# Altium footprint library LQFP.PcbLib: 7 footprints
Each footprint in its own frame and in the unit in brackets; x right, y up, seen from the top. Pads: shape width x height; smd on the part's side, far side on the other; paste and mask are expansions set on the pad; w line width, h text height; cw(c..) or ccw(c..) is an arc to the next point about the centre after c.
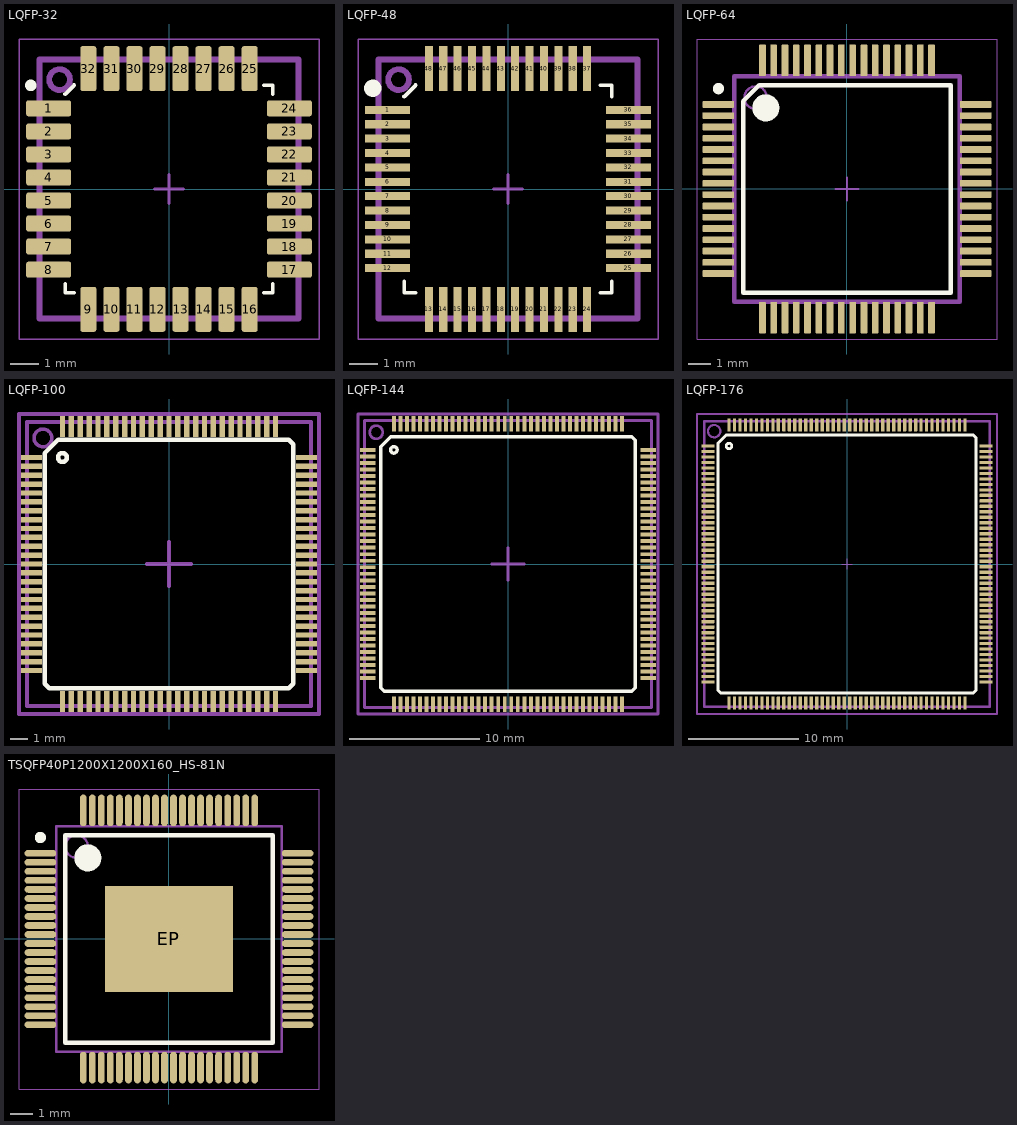
[diagram p0: the footprints below, top view; thin cyan lines are the x and y axes]

## LQFP-32 [mm]
height 1.2
pads (32):
  rrect25% 1.56x0.55 smd: 1(-4.18,2.8) 2(-4.18,2) 3(-4.18,1.2) 4(-4.18,0.4) 5(-4.18,-0.4) 6(-4.18,-1.2) 7(-4.18,-2) 8(-4.18,-2.8) 17(4.18,-2.8) 18(4.18,-2) 19(4.18,-1.2) 20(4.18,-0.4) 21(4.18,0.4) 22(4.18,1.2) 23(4.18,2) 24(4.18,2.8)
  rrect25% 0.55x1.56 smd: 9(-2.8,-4.18) 10(-2,-4.18) 11(-1.2,-4.18) 12(-0.4,-4.18) 13(0.4,-4.18) 14(1.2,-4.18) 15(2,-4.18) 16(2.8,-4.18) 25(2.8,4.18) 26(2,4.18) 27(1.2,4.18) 28(0.4,4.18) 29(-0.4,4.18) 30(-1.2,4.18) 31(-2,4.18) 32(-2.8,4.18)
Top Overlay:
  circle w0.2: c-4.8,3.6 r0.1
  lines w0.127: -3.6,-3.3 -3.6,-3.6 -3.3,-3.6 ; 3.3,-3.6 3.6,-3.6 3.6,-3.3 ; 3.3,3.6 3.6,3.6 3.6,3.3
  lines w0.15: -3.6,3.3 -3.3,3.6
Top Assembly (Mech3):
  circle w0.2: c-3.8,3.8 r0.361
  lines w0.2: -4.5,-4.5 4.5,-4.5 4.5,4.5 -4.5,4.5 -4.5,-4.5
Top Courtyard:
  lines w0.05: -5.21,-5.21 -5.21,5.21 5.21,5.21 5.21,-5.21 -5.21,-5.21
  lines w0.1: -0.5,0 0.5,0 ; 0,-0.5 0,0.5
3D body "LQFP32_FPT-32P-M21.stp": height 1.5, standoff 0, extent -4.5,-4.5 4.5,4.5

## LQFP-48 [mm]
height 1.2
pads (48):
  rect 1.56x0.28 smd: 1(-4.18,2.75) 2(-4.18,2.25) 3(-4.18,1.75) 4(-4.18,1.25) 5(-4.18,0.75) 6(-4.18,0.25) 7(-4.18,-0.25) 8(-4.18,-0.75) 9(-4.18,-1.25) 10(-4.18,-1.75) 11(-4.18,-2.25) 12(-4.18,-2.75) 25(4.18,-2.75) 26(4.18,-2.25) 27(4.18,-1.75) 28(4.18,-1.25) 29(4.18,-0.75) 30(4.18,-0.25) 31(4.18,0.25) 32(4.18,0.75) 33(4.18,1.25) 34(4.18,1.75) 35(4.18,2.25) 36(4.18,2.75)
  rect 0.28x1.56 smd: 13(-2.75,-4.18) 14(-2.25,-4.18) 15(-1.75,-4.18) 16(-1.25,-4.18) 17(-0.75,-4.18) 18(-0.25,-4.18) 19(0.25,-4.18) 20(0.75,-4.18) 21(1.25,-4.18) 22(1.75,-4.18) 23(2.25,-4.18) 24(2.75,-4.18) 37(2.75,4.18) 38(2.25,4.18) 39(1.75,4.18) 40(1.25,4.18) 41(0.75,4.18) 42(0.25,4.18) 43(-0.25,4.18) 44(-0.75,4.18) 45(-1.25,4.18) 46(-1.75,4.18) 47(-2.25,4.18) 48(-2.75,4.18)
Top Overlay:
  circle w0.3: c-4.7,3.5 r0.15
  lines w0.127: -3.6,-3.21 -3.6,-3.6 -3.21,-3.6 ; 3.21,-3.6 3.6,-3.6 3.6,-3.21 ; 3.21,3.6 3.6,3.6 3.6,3.21
  lines w0.15: -3.6,3.21 -3.21,3.6
Top Assembly (Mech3):
  circle w0.2: c-3.8,3.8 r0.361
  lines w0.2: -4.5,-4.5 -4.5,4.5 4.5,4.5 4.5,-4.5 -4.5,-4.5
Top Courtyard:
  lines w0.05: -5.21,-5.21 5.21,-5.21 5.21,5.21 -5.21,5.21 -5.21,-5.21
  lines w0.1: -0.5,0 0.5,0 ; 0,-0.5 0,0.5
3D body "LQFP48_FPT-48P-M05.stp": height 1.5, standoff 0, extent -4.5,-4.5 4.5,4.5

## LQFP-64 [mm] "TSQFP, 64-Leads, Body 10,00x10,00mm, Pitch 0,50mm, IPC Medium Density"
height 1.6
pads (64):
  rrect25% 1.4x0.3 smd: 1(-5.7,3.75) 2(-5.7,3.25) 3(-5.7,2.75) 4(-5.7,2.25) 5(-5.7,1.75) 6(-5.7,1.25) 7(-5.7,0.75) 8(-5.7,0.25) 9(-5.7,-0.25) 10(-5.7,-0.75) 11(-5.7,-1.25) 12(-5.7,-1.75) 13(-5.7,-2.25) 14(-5.7,-2.75) 15(-5.7,-3.25) 16(-5.7,-3.75) 33(5.7,-3.75) 34(5.7,-3.25) 35(5.7,-2.75) 36(5.7,-2.25) 37(5.7,-1.75) 38(5.7,-1.25) 39(5.7,-0.75) 40(5.7,-0.25) 41(5.7,0.25) 42(5.7,0.75) 43(5.7,1.25) 44(5.7,1.75) 45(5.7,2.25) 46(5.7,2.75) 47(5.7,3.25) 48(5.7,3.75)
  rrect25% 0.3x1.4 smd: 17(-3.75,-5.7) 18(-3.25,-5.7) 19(-2.75,-5.7) 20(-2.25,-5.7) 21(-1.75,-5.7) 22(-1.25,-5.7) 23(-0.75,-5.7) 24(-0.25,-5.7) 25(0.25,-5.7) 26(0.75,-5.7) 27(1.25,-5.7) 28(1.75,-5.7) 29(2.25,-5.7) 30(2.75,-5.7) 31(3.25,-5.7) 32(3.75,-5.7) 49(3.75,5.7) 50(3.25,5.7) 51(2.75,5.7) 52(2.25,5.7) 53(1.75,5.7) 54(1.25,5.7) 55(0.75,5.7) 56(0.25,5.7) 57(-0.25,5.7) 58(-0.75,5.7) 59(-1.25,5.7) 60(-1.75,5.7) 61(-2.25,5.7) 62(-2.75,5.7) 63(-3.25,5.7) 64(-3.75,5.7)
Top Overlay:
  circle w0.6: c-3.6,3.6 r0.3
  circle w0.25: c-5.7,4.45 r0.125
  lines w0.2: -4.6,-4.6 4.6,-4.6 4.6,4.6 -3.9,4.6 -4.6,3.9 -4.6,-4.6
Top Assembly (Mech3):
  circle w0.1: c-4.05,4.05 r0.5
  lines w0.2: -5,-5 5,-5 5,5 -5,5 -5,-5
Top Courtyard:
  lines w0.05: -6.65,-6.65 6.65,-6.65 6.65,6.65 -6.65,6.65 -6.65,-6.65
  lines w0.1: -0.5,0 0.5,0 ; 0,-0.5 0,0.5
3D body "LQFP64_FPT-64P-M03.stp": height 1.5, standoff 0, extent -6,-6 6,6

## LQFP-100 [mm] "Thin QFP, 100-Leads, Body 14x14mm, Pitch 0.5mm"
height 1.6
pads (100):
  rect 1.2x0.3 smd: 1(-7.75,6) 2(-7.75,5.5) 3(-7.75,5) 4(-7.75,4.5) 5(-7.75,4) 6(-7.75,3.5) 7(-7.75,3) 8(-7.75,2.5) 9(-7.75,2) 10(-7.75,1.5) 11(-7.75,1) 12(-7.75,0.5) 13(-7.75,0) 14(-7.75,-0.5) 15(-7.75,-1) 16(-7.75,-1.5) 17(-7.75,-2) 18(-7.75,-2.5) 19(-7.75,-3) 20(-7.75,-3.5) 21(-7.75,-4) 22(-7.75,-4.5) 23(-7.75,-5) 24(-7.75,-5.5) 25(-7.75,-6) 51(7.75,-6) 52(7.75,-5.5) 53(7.75,-5) 54(7.75,-4.5) 55(7.75,-4) 56(7.75,-3.5) 57(7.75,-3) 58(7.75,-2.5) 59(7.75,-2) 60(7.75,-1.5) 61(7.75,-1) 62(7.75,-0.5) 63(7.75,0) 64(7.75,0.5) 65(7.75,1) 66(7.75,1.5) 67(7.75,2) 68(7.75,2.5) 69(7.75,3) 70(7.75,3.5) 71(7.75,4) 72(7.75,4.5) 73(7.75,5) 74(7.75,5.5) 75(7.75,6)
  rect 0.3x1.2 smd: 26(-6,-7.75) 27(-5.5,-7.75) 28(-5,-7.75) 29(-4.5,-7.75) 30(-4,-7.75) 31(-3.5,-7.75) 32(-3,-7.75) 33(-2.5,-7.75) 34(-2,-7.75) 35(-1.5,-7.75) 36(-1,-7.75) 37(-0.5,-7.75) 38(0,-7.75) 39(0.5,-7.75) 40(1,-7.75) 41(1.5,-7.75) 42(2,-7.75) 43(2.5,-7.75) 44(3,-7.75) 45(3.5,-7.75) 46(4,-7.75) 47(4.5,-7.75) 48(5,-7.75) 49(5.5,-7.75) 50(6,-7.75) 76(6,7.75) 77(5.5,7.75) 78(5,7.75) 79(4.5,7.75) 80(4,7.75) 81(3.5,7.75) 82(3,7.75) 83(2.5,7.75) 84(2,7.75) 85(1.5,7.75) 86(1,7.75) 87(0.5,7.75) 88(0,7.75) 89(-0.5,7.75) 90(-1,7.75) 91(-1.5,7.75) 92(-2,7.75) 93(-2.5,7.75) 94(-3,7.75) 95(-3.5,7.75) 96(-4,7.75) 97(-4.5,7.75) 98(-5,7.75) 99(-5.5,7.75) 100(-6,7.75)
Top Overlay:
  circle w0.254: c-6,6 r0.25
  lines w0.254: -7,-6.75 -6.75,-7 6.75,-7 7,-6.75 7,6.75 6.75,7 -6.25,7 -7,6.25 -7,-6.75
Top Assembly (Mech3):
  circle w0.2: c-7.1,7.1 r0.5
  lines w0.2: -8,-8 -8,8 8,8 8,-8 -8,-8
Top Courtyard:
  lines w0.2: -1.25,0 1.25,0 ; 0,-1.25 0,1.25 ; -8.45,-8.45 8.45,-8.45 8.45,8.45 -8.45,8.45 -8.45,-8.45
3D body "LQFP100_FPT-100P-M05.stp": height 1.5, standoff 0, extent -8,-8 8,8

## LQFP-144 [mm]
height 1.2
pads (144):
  rect 1.2x0.3 smd: 1(-10.75,8.75) 2(-10.75,8.25) 3(-10.75,7.75) 4(-10.75,7.25) 5(-10.75,6.75) 6(-10.75,6.25) 7(-10.75,5.75) 8(-10.75,5.25) 9(-10.75,4.75) 10(-10.75,4.25) 11(-10.75,3.75) 12(-10.75,3.25) 13(-10.75,2.75) 14(-10.75,2.25) 15(-10.75,1.75) 16(-10.75,1.25) 17(-10.75,0.75) 18(-10.75,0.25) 19(-10.75,-0.25) 20(-10.75,-0.75) 21(-10.75,-1.25) 22(-10.75,-1.75) 23(-10.75,-2.25) 24(-10.75,-2.75) 25(-10.75,-3.25) 26(-10.75,-3.75) 27(-10.75,-4.25) 28(-10.75,-4.75) 29(-10.75,-5.25) 30(-10.75,-5.75) 31(-10.75,-6.25) 32(-10.75,-6.75) 33(-10.75,-7.25) 34(-10.75,-7.75) 35(-10.75,-8.25) 36(-10.75,-8.75) 73(10.75,-8.75) 74(10.75,-8.25) 75(10.75,-7.75) 76(10.75,-7.25) 77(10.75,-6.75) 78(10.75,-6.25) 79(10.75,-5.75) 80(10.75,-5.25) 81(10.75,-4.75) 82(10.75,-4.25) 83(10.75,-3.75) 84(10.75,-3.25) 85(10.75,-2.75) 86(10.75,-2.25) 87(10.75,-1.75) 88(10.75,-1.25) 89(10.75,-0.75) 90(10.75,-0.25) 91(10.75,0.25) 92(10.75,0.75) 93(10.75,1.25) 94(10.75,1.75) 95(10.75,2.25) 96(10.75,2.75) 97(10.75,3.25) 98(10.75,3.75) 99(10.75,4.25) 100(10.75,4.75) 101(10.75,5.25) 102(10.75,5.75) 103(10.75,6.25) 104(10.75,6.75) 105(10.75,7.25) 106(10.75,7.75) 107(10.75,8.25) 108(10.75,8.75)
  rect 0.3x1.2 smd: 37(-8.75,-10.75) 38(-8.25,-10.75) 39(-7.75,-10.75) 40(-7.25,-10.75) 41(-6.75,-10.75) 42(-6.25,-10.75) 43(-5.75,-10.75) 44(-5.25,-10.75) 45(-4.75,-10.75) 46(-4.25,-10.75) 47(-3.75,-10.75) 48(-3.25,-10.75) 49(-2.75,-10.75) 50(-2.25,-10.75) 51(-1.75,-10.75) 52(-1.25,-10.75) 53(-0.75,-10.75) 54(-0.25,-10.75) 55(0.25,-10.75) 56(0.75,-10.75) 57(1.25,-10.75) 58(1.75,-10.75) 59(2.25,-10.75) 60(2.75,-10.75) 61(3.25,-10.75) 62(3.75,-10.75) 63(4.25,-10.75) 64(4.75,-10.75) 65(5.25,-10.75) 66(5.75,-10.75) 67(6.25,-10.75) 68(6.75,-10.75) 69(7.25,-10.75) 70(7.75,-10.75) 71(8.25,-10.75) 72(8.75,-10.75) 109(8.75,10.75) 110(8.25,10.75) 111(7.75,10.75) 112(7.25,10.75) 113(6.75,10.75) 114(6.25,10.75) 115(5.75,10.75) 116(5.25,10.75) 117(4.75,10.75) 118(4.25,10.75) 119(3.75,10.75) 120(3.25,10.75) 121(2.75,10.75) 122(2.25,10.75) 123(1.75,10.75) 124(1.25,10.75) 125(0.75,10.75) 126(0.25,10.75) 127(-0.25,10.75) 128(-0.75,10.75) 129(-1.25,10.75) 130(-1.75,10.75) 131(-2.25,10.75) 132(-2.75,10.75) 133(-3.25,10.75) 134(-3.75,10.75) 135(-4.25,10.75) 136(-4.75,10.75) 137(-5.25,10.75) 138(-5.75,10.75) 139(-6.25,10.75) 140(-6.75,10.75) 141(-7.25,10.75) 142(-7.75,10.75) 143(-8.25,10.75) 144(-8.75,10.75)
Top Overlay:
  circle w0.254: c-8.75,8.75 r0.25
  lines w0.254: -9.75,-9.5 -9.5,-9.75 9.5,-9.75 9.75,-9.5 9.75,9.5 9.5,9.75 -9,9.75 -9.75,9 -9.75,-9.5
Top Assembly (Mech3):
  circle w0.2: c-10.1,10.1 r0.5
  lines w0.2: -11,-11 11,-11 11,11 -11,11 -11,-11
Top Courtyard:
  lines w0.2: -1.25,0 1.25,0 ; 0,-1.25 0,1.25 ; -11.5,-11.5 -11.5,11.5 11.5,11.5 11.5,-11.5 -11.5,-11.5
3D body "LQFP144_FPT-144P-M08.stp": height 1.7, standoff 0, extent -11,-11 11,11

## LQFP-176 [mm]
pads (176):
  rrect25% 1.2x0.3 smd: 1(-12.67,10.75) 2(-12.67,10.25) 3(-12.67,9.75) 4(-12.67,9.25) 5(-12.67,8.75) 6(-12.67,8.25) 7(-12.67,7.75) 8(-12.67,7.25) 9(-12.67,6.75) 10(-12.67,6.25) 11(-12.67,5.75) 12(-12.67,5.25) 13(-12.67,4.75) 14(-12.67,4.25) 15(-12.67,3.75) 16(-12.67,3.25) 17(-12.67,2.75) 18(-12.67,2.25) 19(-12.67,1.75) 20(-12.67,1.25) 21(-12.67,0.75) 22(-12.67,0.25) 23(-12.67,-0.25) 24(-12.67,-0.75) 25(-12.67,-1.25) 26(-12.67,-1.75) 27(-12.67,-2.25) 28(-12.67,-2.75) 29(-12.67,-3.25) 30(-12.67,-3.75) 31(-12.67,-4.25) 32(-12.67,-4.75) 33(-12.67,-5.25) 34(-12.67,-5.75) 35(-12.67,-6.25) 36(-12.67,-6.75) 37(-12.67,-7.25) 38(-12.67,-7.75) 39(-12.67,-8.25) 40(-12.67,-8.75) 41(-12.67,-9.25) 42(-12.67,-9.75) 43(-12.67,-10.25) 44(-12.67,-10.75) 89(12.67,-10.75) 90(12.67,-10.25) 91(12.67,-9.75) 92(12.67,-9.25) 93(12.67,-8.75) 94(12.67,-8.25) 95(12.67,-7.75) 96(12.67,-7.25) 97(12.67,-6.75) 98(12.67,-6.25) 99(12.67,-5.75) 100(12.67,-5.25) 101(12.67,-4.75) 102(12.67,-4.25) 103(12.67,-3.75) 104(12.67,-3.25) 105(12.67,-2.75) 106(12.67,-2.25) 107(12.67,-1.75) 108(12.67,-1.25) 109(12.67,-0.75) 110(12.67,-0.25) 111(12.67,0.25) 112(12.67,0.75) 113(12.67,1.25) 114(12.67,1.75) 115(12.67,2.25) 116(12.67,2.75) 117(12.67,3.25) 118(12.67,3.75) 119(12.67,4.25) 120(12.67,4.75) 121(12.67,5.25) 122(12.67,5.75) 123(12.67,6.25) 124(12.67,6.75) 125(12.67,7.25) 126(12.67,7.75) 127(12.67,8.25) 128(12.67,8.75) 129(12.67,9.25) 130(12.67,9.75) 131(12.67,10.25) 132(12.67,10.75)
  rrect25% 0.3x1.2 smd: 45(-10.75,-12.67) 46(-10.25,-12.67) 47(-9.75,-12.67) 48(-9.25,-12.67) 49(-8.75,-12.67) 50(-8.25,-12.67) 51(-7.75,-12.67) 52(-7.25,-12.67) 53(-6.75,-12.67) 54(-6.25,-12.67) 55(-5.75,-12.67) 56(-5.25,-12.67) 57(-4.75,-12.67) 58(-4.25,-12.67) 59(-3.75,-12.67) 60(-3.25,-12.67) 61(-2.75,-12.67) 62(-2.25,-12.67) 63(-1.75,-12.67) 64(-1.25,-12.67) 65(-0.75,-12.67) 66(-0.25,-12.67) 67(0.25,-12.67) 68(0.75,-12.67) 69(1.25,-12.67) 70(1.75,-12.67) 71(2.25,-12.67) 72(2.75,-12.67) 73(3.25,-12.67) 74(3.75,-12.67) 75(4.25,-12.67) 76(4.75,-12.67) 77(5.25,-12.67) 78(5.75,-12.67) 79(6.25,-12.67) 80(6.75,-12.67) 81(7.25,-12.67) 82(7.75,-12.67) 83(8.25,-12.67) 84(8.75,-12.67) 85(9.25,-12.67) 86(9.75,-12.67) 87(10.25,-12.67) 88(10.75,-12.67) 133(10.75,12.67) 134(10.25,12.67) 135(9.75,12.67) 136(9.25,12.67) 137(8.75,12.67) 138(8.25,12.67) 139(7.75,12.67) 140(7.25,12.67) 141(6.75,12.67) 142(6.25,12.67) 143(5.75,12.67) 144(5.25,12.67) 145(4.75,12.67) 146(4.25,12.67) 147(3.75,12.67) 148(3.25,12.67) 149(2.75,12.67) 150(2.25,12.67) 151(1.75,12.67) 152(1.25,12.67) 153(0.75,12.67) 154(0.25,12.67) 155(-0.25,12.67) 156(-0.75,12.67) 157(-1.25,12.67) 158(-1.75,12.67) 159(-2.25,12.67) 160(-2.75,12.67) 161(-3.25,12.67) 162(-3.75,12.67) 163(-4.25,12.67) 164(-4.75,12.67) 165(-5.25,12.67) 166(-5.75,12.67) 167(-6.25,12.67) 168(-6.75,12.67) 169(-7.25,12.67) 170(-7.75,12.67) 171(-8.25,12.67) 172(-8.75,12.67) 173(-9.25,12.67) 174(-9.75,12.67) 175(-10.25,12.67) 176(-10.75,12.67)
Top Overlay:
  circle w0.254: c-10.75,10.75 r0.25
  lines w0.254: -11.75,-11.5 -11.5,-11.75 11.5,-11.75 11.75,-11.5 11.75,11.5 11.5,11.75 -11,11.75 -11.75,11 -11.75,-11.5
Top Assembly (Mech3):
  circle w0.2: c-12.1,12.1 r0.566
  lines w0.2: -13,-13 -13,13 13,13 13,-13 -13,-13
Top Courtyard:
  lines w0.1: -0.5,0 0.5,0 ; 0,-0.5 0,0.5
  lines w0.2: -13.665,-13.665 13.665,-13.665 13.665,13.665 -13.665,13.665 -13.665,-13.665
3D body "LQFP176_FPT-176P-M02.stp": height 1.5, standoff 0, extent -13,-13 13,13

## TSQFP40P1200X1200X160_HS-81N [mm] "TSQFP, 80-Leads, Body 10,00x10,00mm, Pitch 0,40mm, Thermal Pad 4,72x5,69mm, IPC Medium Density"
height 1.6
pads (81):
  oval 1.4x0.3 smd: 1(-5.7,3.8) 2(-5.7,3.4) 3(-5.7,3) 4(-5.7,2.6) 5(-5.7,2.2) 6(-5.7,1.8) 7(-5.7,1.4) 8(-5.7,1) 9(-5.7,0.6) 10(-5.7,0.2) 11(-5.7,-0.2) 12(-5.7,-0.6) 13(-5.7,-1) 14(-5.7,-1.4) 15(-5.7,-1.8) 16(-5.7,-2.2) 17(-5.7,-2.6) 18(-5.7,-3) 19(-5.7,-3.4) 20(-5.7,-3.8) 41(5.7,-3.8) 42(5.7,-3.4) 43(5.7,-3) 44(5.7,-2.6) 45(5.7,-2.2) 46(5.7,-1.8) 47(5.7,-1.4) 48(5.7,-1) 49(5.7,-0.6) 50(5.7,-0.2) 51(5.7,0.2) 52(5.7,0.6) 53(5.7,1) 54(5.7,1.4) 55(5.7,1.8) 56(5.7,2.2) 57(5.7,2.6) 58(5.7,3) 59(5.7,3.4) 60(5.7,3.8)
  oval 0.3x1.4 smd: 21(-3.8,-5.7) 22(-3.4,-5.7) 23(-3,-5.7) 24(-2.6,-5.7) 25(-2.2,-5.7) 26(-1.8,-5.7) 27(-1.4,-5.7) 28(-1,-5.7) 29(-0.6,-5.7) 30(-0.2,-5.7) 31(0.2,-5.7) 32(0.6,-5.7) 33(1,-5.7) 34(1.4,-5.7) 35(1.8,-5.7) 36(2.2,-5.7) 37(2.6,-5.7) 38(3,-5.7) 39(3.4,-5.7) 40(3.8,-5.7) 61(3.8,5.7) 62(3.4,5.7) 63(3,5.7) 64(2.6,5.7) 65(2.2,5.7) 66(1.8,5.7) 67(1.4,5.7) 68(1,5.7) 69(0.6,5.7) 70(0.2,5.7) 71(-0.2,5.7) 72(-0.6,5.7) 73(-1,5.7) 74(-1.4,5.7) 75(-1.8,5.7) 76(-2.2,5.7) 77(-2.6,5.7) 78(-3,5.7) 79(-3.4,5.7) 80(-3.8,5.7)
  rect 5.69x4.72 smd: EP(0,0)
Top Overlay:
  circle w0.6: c-3.6,3.6 r0.3
  circle w0.25: c-5.7,4.5 r0.125
  lines w0.2: -4.6,-4.6 4.6,-4.6 4.6,4.6 -4.6,4.6 -4.6,-4.6
Top Assembly (Mech3):
  circle w0.1: c-4.1,4.1 r0.5
  lines w0.1: -5,-5 5,-5 5,5 -5,5 -5,-5
Top Courtyard:
  lines w0.05: -6.65,-6.65 6.65,-6.65 6.65,6.65 -6.65,6.65 -6.65,-6.65
  lines w0.1: -0.5,0 0.5,0 ; 0,-0.5 0,0.5
3D body: height 1.6, standoff 0.05, extent -5,-5 5,5